# Altium footprint library PcbLib1.PcbLib: 202 footprints (part 5 of 13)
Each footprint in its own frame and in the unit in brackets; x right, y up, seen from the top. Pads: shape width x height; smd on the part's side, far side on the other; paste and mask are expansions set on the pad; w line width, h text height; cw(c..) or ccw(c..) is an arc to the next point about the centre after c.
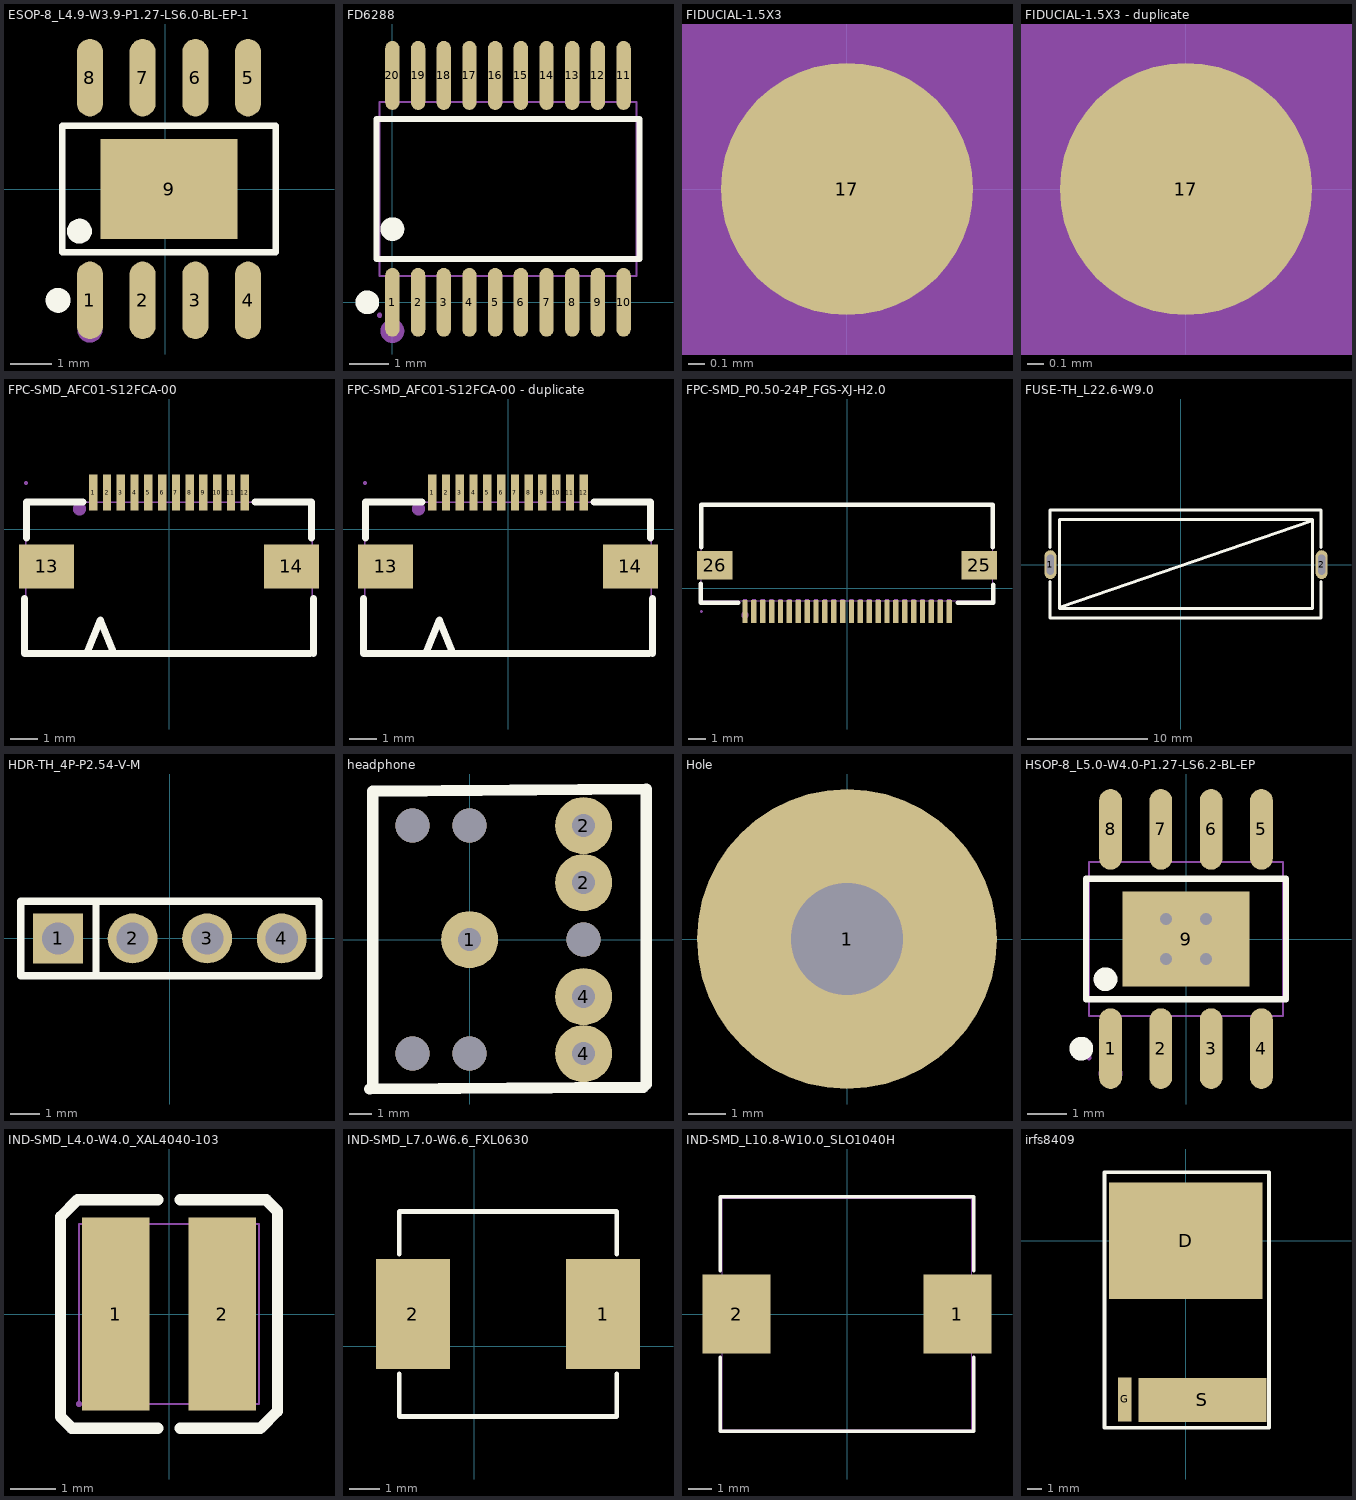
[diagram p4: the footprints below, top view; thin cyan lines are the x and y axes]

## ESOP-8_L4.9-W3.9-P1.27-LS6.0-BL-EP-1 [mm]
pads (9):
  oval 0.63x1.865 smd paste+0 mask+0.051: 1(-1.82,-2.682) 2(-0.55,-2.682) 3(0.72,-2.682) 4(1.99,-2.682) 5(1.99,2.682) 6(0.72,2.682) 7(-0.55,2.682) 8(-1.82,2.682)
  rect 3.3x2.4 smd paste+0 mask+0.05: 9(0.085,0)
Top Overlay:
  circle w0.3: c-2.587,-2.682 r0.15
  circle w0.3: c-2.074,-1.016 r0.15
  lines w0.152: -2.491,-1.521 -2.491,1.521 2.661,1.521 2.661,-1.521 -2.491,-1.521
Mechanical 15:
  circle w0.3: c-1.82,-3.4 r0.15

## FD6288 [mm]
pads (20):
  oval 0.364x1.742 smd mask+0.051: 1(0,0) 2(0.65,0) 3(1.3,0) 4(1.95,0) 5(2.6,0) 6(3.25,0) 7(3.9,0) 8(4.55,0) 9(5.2,0) 10(5.85,0) 11(5.85,5.742) 12(5.2,5.742) 13(4.55,5.742) 14(3.9,5.742) 15(3.25,5.742) 16(2.6,5.742) 17(1.95,5.742) 18(1.3,5.742) 19(0.65,5.742) 20(0,5.742)
Top Overlay:
  circle w0.3: c0,1.852 r0.15
  circle w0.3: c-0.634,0 r0.15
  lines w0.152: -0.401,1.1 -0.401,4.642 6.251,4.642 6.251,1.1 -0.401,1.1
Mechanical 6:
  circle w0.3: c0,-0.729 r0.15
Mechanical 15:
  drawing of 45 lines, arcs and shapes, not listed

## FIDUCIAL-1.5X3 [mil]
pads (1):
  round 60 smd: 17(0,0)
Mechanical 15:
  lines w50: 35.65,-0.1 cw(c0,0) 35.65,0.1

## FIDUCIAL-1.5X3 - duplicate [mil]
pads (1):
  round 60 smd: 17(0,0)
Mechanical 15:
  lines w50: 35.65,-0.1 cw(c0,0) 35.65,0.1

## FPC-SMD_AFC01-S12FCA-00 [mm]
pads (14):
  rect 0.3x1.3 smd: 1(-2.75,1.34) 2(-2.251,1.34) 3(-1.751,1.34) 4(-1.25,1.34) 5(-0.75,1.34) 6(-0.25,1.34) 7(0.251,1.34) 8(0.75,1.34) 9(1.249,1.34) 10(1.749,1.34) 11(2.25,1.34) 12(2.75,1.34)
  rect 2x1.6 smd: 13(-4.45,-1.34) 14(4.45,-1.34)
Top Overlay:
  lines w0.254: -5.25,-2.5 -5.25,-4.5 5.13,-4.5 ; -5.18,-0.309 -5.18,0.76 ; -5.18,-0.079 -5.18,0.99 -3.132,0.99 ; -2.99,-4.5 -2.49,-3.29 -2,-4.49 ; 3.131,0.99 5.18,0.99 5.18,-0.079 ; 5.18,-0.309 5.18,0.76 ; 5.25,-4.5 5.25,-2.5
Mechanical 6:
  circle w0.24: c-3.25,0.75 r0.12
Mechanical 15:
  region: 2.65,0.99 2.65,1.69 2.85,1.69 2.85,0.99
  region: 2.65,0.98 2.65,1 2.85,1 2.85,0.98
  region: 2.15,0.99 2.15,1.69 2.35,1.69 2.35,0.99
  region: 2.15,0.98 2.15,1 2.35,1 2.35,0.98
  region: 1.649,0.99 1.649,1.69 1.849,1.69 1.849,0.99
  region: 1.649,0.98 1.649,1 1.849,1 1.849,0.98
  region: 1.149,0.99 1.149,1.69 1.349,1.69 1.349,0.99
  region: 1.149,0.98 1.149,1 1.349,1 1.349,0.98
  region: 0.65,0.99 0.65,1.69 0.85,1.69 0.85,0.99
  region: 0.65,0.98 0.65,1 0.85,1 0.85,0.98
  region: 0.151,0.99 0.151,1.69 0.351,1.69 0.351,0.99
  region: 0.151,0.98 0.151,1 0.351,1 0.351,0.98
  region: -0.35,0.99 -0.35,1.69 -0.15,1.69 -0.15,0.99
  region: -0.35,0.98 -0.35,1 -0.15,1 -0.15,0.98
  region: -0.85,0.99 -0.85,1.69 -0.65,1.69 -0.65,0.99
  region: -0.85,0.98 -0.85,1 -0.65,1 -0.65,0.98
  region: -1.35,0.99 -1.35,1.69 -1.15,1.69 -1.15,0.99
  region: -1.35,0.98 -1.35,1 -1.15,1 -1.15,0.98
  region: -1.851,0.99 -1.851,1.69 -1.651,1.69 -1.651,0.99
  region: -1.851,0.98 -1.851,1 -1.651,1 -1.651,0.98
  region: -2.351,0.99 -2.351,1.69 -2.151,1.69 -2.151,0.99
  region: -2.351,0.98 -2.351,1 -2.151,1 -2.151,0.98
  region: -2.85,0.99 -2.85,1.69 -2.65,1.69 -2.65,0.99
  region: -2.85,0.98 -2.85,1 -2.65,1 -2.65,0.98
  region: 5.2,-1.84 3.7,-1.84 3.7,-0.84 5.2,-0.84
  region: -5.2,-0.84 -3.7,-0.84 -3.7,-1.84 -5.2,-1.84
  region: -5.14,1.69 -5.141,1.714 -5.176,1.749 -5.225,1.749 -5.26,1.714 -5.26,1.69 -5.26,1.665 -5.225,1.631 -5.176,1.631 -5.141,1.666
  lines w0.051: -5.2,-4.41 5.2,-4.41 5.2,0.99 -5.2,0.99 -5.2,-4.41

## FPC-SMD_AFC01-S12FCA-00 - duplicate [mm]
pads (14):
  rect 0.3x1.3 smd: 1(-2.75,1.34) 2(-2.251,1.34) 3(-1.751,1.34) 4(-1.25,1.34) 5(-0.75,1.34) 6(-0.25,1.34) 7(0.251,1.34) 8(0.75,1.34) 9(1.249,1.34) 10(1.749,1.34) 11(2.25,1.34) 12(2.75,1.34)
  rect 2x1.6 smd: 13(-4.45,-1.34) 14(4.45,-1.34)
Top Overlay:
  lines w0.254: -5.25,-2.5 -5.25,-4.5 5.13,-4.5 ; -5.18,-0.309 -5.18,0.76 ; -5.18,-0.079 -5.18,0.99 -3.132,0.99 ; -2.99,-4.5 -2.49,-3.29 -2,-4.49 ; 3.131,0.99 5.18,0.99 5.18,-0.079 ; 5.18,-0.309 5.18,0.76 ; 5.25,-4.5 5.25,-2.5
Mechanical 6:
  circle w0.24: c-3.25,0.75 r0.12
Mechanical 15:
  region: 2.65,0.99 2.65,1.69 2.85,1.69 2.85,0.99
  region: 2.65,0.98 2.65,1 2.85,1 2.85,0.98
  region: 2.15,0.99 2.15,1.69 2.35,1.69 2.35,0.99
  region: 2.15,0.98 2.15,1 2.35,1 2.35,0.98
  region: 1.649,0.99 1.649,1.69 1.849,1.69 1.849,0.99
  region: 1.649,0.98 1.649,1 1.849,1 1.849,0.98
  region: 1.149,0.99 1.149,1.69 1.349,1.69 1.349,0.99
  region: 1.149,0.98 1.149,1 1.349,1 1.349,0.98
  region: 0.65,0.99 0.65,1.69 0.85,1.69 0.85,0.99
  region: 0.65,0.98 0.65,1 0.85,1 0.85,0.98
  region: 0.151,0.99 0.151,1.69 0.351,1.69 0.351,0.99
  region: 0.151,0.98 0.151,1 0.351,1 0.351,0.98
  region: -0.35,0.99 -0.35,1.69 -0.15,1.69 -0.15,0.99
  region: -0.35,0.98 -0.35,1 -0.15,1 -0.15,0.98
  region: -0.85,0.99 -0.85,1.69 -0.65,1.69 -0.65,0.99
  region: -0.85,0.98 -0.85,1 -0.65,1 -0.65,0.98
  region: -1.35,0.99 -1.35,1.69 -1.15,1.69 -1.15,0.99
  region: -1.35,0.98 -1.35,1 -1.15,1 -1.15,0.98
  region: -1.851,0.99 -1.851,1.69 -1.651,1.69 -1.651,0.99
  region: -1.851,0.98 -1.851,1 -1.651,1 -1.651,0.98
  region: -2.351,0.99 -2.351,1.69 -2.151,1.69 -2.151,0.99
  region: -2.351,0.98 -2.351,1 -2.151,1 -2.151,0.98
  region: -2.85,0.99 -2.85,1.69 -2.65,1.69 -2.65,0.99
  region: -2.85,0.98 -2.85,1 -2.65,1 -2.65,0.98
  region: 5.2,-1.84 3.7,-1.84 3.7,-0.84 5.2,-0.84
  region: -5.2,-0.84 -3.7,-0.84 -3.7,-1.84 -5.2,-1.84
  region: -5.14,1.69 -5.141,1.714 -5.176,1.749 -5.225,1.749 -5.26,1.714 -5.26,1.69 -5.26,1.665 -5.225,1.631 -5.176,1.631 -5.141,1.666
  lines w0.051: -5.2,-4.41 5.2,-4.41 5.2,0.99 -5.2,0.99 -5.2,-4.41

## FPC-SMD_P0.50-24P_FGS-XJ-H2.0 [mm]
pads (26):
  rect 0.3x1.3 smd: 1(-5.748,-1.301) 2(-5.248,-1.301) 3(-4.748,-1.301) 4(-4.248,-1.301) 5(-3.748,-1.301) 6(-3.248,-1.301) 7(-2.748,-1.301) 8(-2.248,-1.301) 9(-1.748,-1.301) 10(-1.248,-1.301) 11(-0.748,-1.301) 12(-0.248,-1.301) 13(0.252,-1.301) 14(0.752,-1.301) 15(1.252,-1.301) 16(1.752,-1.301) 17(2.252,-1.301) 18(2.752,-1.301) 19(3.252,-1.301) 20(3.752,-1.301) 21(4.252,-1.301) 22(4.752,-1.301) 23(5.252,-1.301) 24(5.752,-1.301)
  rect 2x1.6 smd: 25(7.45,1.301) 26(-7.45,1.301)
Top Overlay:
  lines w0.254: -8.25,0.27 -8.25,-0.8 -6.129,-0.8 ; -8.199,2.332 -8.199,4.701 8.199,4.701 ; 6.25,-0.8 8.25,-0.8 8.25,0.2 ; 8.2,2.332 8.2,4.701
Mechanical 6:
  circle w0.2: c-5.75,-1.5 r0.1
Mechanical 15:
  region: 8.198,2.051 8.198,0.551 6.898,0.551 6.898,2.051
  region: -8.198,0.551 -8.198,2.051 -6.898,2.051 -6.898,0.551
  region: 5.653,-1.301 5.653,-0.601 5.853,-0.601 5.853,-1.301
  region: 5.152,-1.301 5.152,-0.601 5.352,-0.601 5.352,-1.301
  region: 4.652,-1.301 4.652,-0.601 4.852,-0.601 4.852,-1.301
  region: 4.152,-1.301 4.152,-0.601 4.352,-0.601 4.352,-1.301
  region: 3.652,-1.301 3.652,-0.601 3.852,-0.601 3.852,-1.301
  region: 3.152,-1.301 3.152,-0.601 3.352,-0.601 3.352,-1.301
  region: 2.652,-1.301 2.652,-0.601 2.852,-0.601 2.852,-1.301
  region: 2.153,-1.301 2.153,-0.601 2.353,-0.601 2.353,-1.301
  region: 1.152,-1.301 1.152,-0.601 1.352,-0.601 1.352,-1.301
  region: 1.652,-1.301 1.652,-0.601 1.852,-0.601 1.852,-1.301
  region: 0.652,-1.301 0.652,-0.601 0.852,-0.601 0.852,-1.301
  region: 0.152,-1.301 0.152,-0.601 0.352,-0.601 0.352,-1.301
  region: -0.347,-1.301 -0.347,-0.601 -0.147,-0.601 -0.147,-1.301
  region: -0.847,-1.301 -0.847,-0.601 -0.647,-0.601 -0.647,-1.301
  region: -1.348,-1.301 -1.348,-0.601 -1.148,-0.601 -1.148,-1.301
  region: -1.848,-1.301 -1.848,-0.601 -1.648,-0.601 -1.648,-1.301
  region: -2.347,-1.301 -2.347,-0.601 -2.147,-0.601 -2.147,-1.301
  region: -2.847,-1.301 -2.847,-0.601 -2.647,-0.601 -2.647,-1.301
  region: -3.348,-1.301 -3.348,-0.601 -3.148,-0.601 -3.148,-1.301
  region: -3.848,-1.301 -3.848,-0.601 -3.648,-0.601 -3.648,-1.301
  region: -4.348,-1.301 -4.348,-0.601 -4.148,-0.601 -4.148,-1.301
  region: -4.847,-1.301 -4.847,-0.601 -4.647,-0.601 -4.647,-1.301
  region: -5.347,-1.301 -5.347,-0.601 -5.147,-0.601 -5.147,-1.301
  region: -5.848,-1.301 -5.848,-0.601 -5.648,-0.601 -5.648,-1.301
  region: -8.14,-1.301 -8.14,-1.276 -8.175,-1.241 -8.225,-1.241 -8.26,-1.276 -8.26,-1.301 -8.26,-1.326 -8.225,-1.361 -8.175,-1.361 -8.14,-1.326
  lines w0.051: -8.2,-0.7 -8.2,4.7 8.2,4.7 8.2,-0.7 -8.2,-0.7

## FUSE-TH_L22.6-W9.0 [mm]
pads (2):
  oval 1x2.4 hole 0.6 slot 1.68 at 90 deg paste-2539.97 mask+0.051: 1(-10.863,0) 2(11.763,0)
Top Overlay:
  lines w0.254: -10.893,-1.431 -10.893,-4.449 11.707,-4.449 11.707,-1.429 ; -10.893,1.431 -10.893,4.551 11.707,4.551 11.707,1.429 ; -9.993,-3.549 10.907,3.651 ; -10.093,-3.649 -10.093,3.751 11.007,3.751 11.007,-3.649 -10.093,-3.649

## HDR-TH_4P-P2.54-V-M [mm]
pads (4):
  rect 1.7x1.7 hole 1.1: 1(-3.81,0)
  round 1.7 hole 1.1: 2(-1.27,0) 3(1.27,0) 4(3.81,0)
Top Overlay:
  lines w0.254: -2.516,-1.27 -2.516,1.27 ; -2.516,1.27 5.08,1.27 5.08,-1.27 -5.08,-1.27 -5.08,1.27 -2.516,1.27
Mechanical 15:
  region: -5.02,-1.25 -5.02,-1.225 -5.055,-1.19 -5.105,-1.19 -5.14,-1.225 -5.14,-1.25 -5.14,-1.275 -5.105,-1.31 -5.055,-1.31 -5.02,-1.275
  region: -4.13,0.32 -3.49,0.32 -3.49,-0.32 -4.13,-0.32
  region: -1.59,0.32 -0.95,0.32 -0.95,-0.32 -1.59,-0.32
  region: 0.95,0.32 1.59,0.32 1.59,-0.32 0.95,-0.32
  region: 3.49,0.32 4.13,0.32 4.13,-0.32 3.49,-0.32
  lines w0.051: -5.08,-1.25 -5.08,1.25 5.08,1.25 5.08,-1.25 -5.08,-1.25

## headphone [mm]
pads (5):
  round 2.5 hole 1 square: 1(0,0) 2(5,2.5) 2(5,5) 4(5,-5) 4(5,-2.5)
via 5,0 diameter 1.5 hole 1.5
via 0,5 diameter 1.5 hole 1.5
via -2.5,5 diameter 1.5 hole 1.5
via 0,-5 diameter 1.5 hole 1.5
via -2.5,-5 diameter 1.5 hole 1.5
Top Overlay:
  lines w0.5: -4.38,-6.555 7.62,-6.477 ; -4.253,-6.428 -4.253,6.502 7.747,6.604 7.747,-6.35

## Hole [mm]
pads (1):
  round 8 hole 3: 1(0,0)

## HSOP-8_L5.0-W4.0-P1.27-LS6.2-BL-EP [mm]
pads (9):
  oval 0.574x2.038 smd: 1(-1.905,-2.769) 2(-0.635,-2.769) 3(0.635,-2.769) 4(1.905,-2.769) 5(1.905,2.769) 6(0.635,2.769) 7(-0.635,2.769) 8(-1.905,2.769)
  rect 3.2x2.4 smd: 9(0,0)
via 0.5,-0.5 diameter 0.61 hole 0.305
via -0.5,-0.5 diameter 0.61 hole 0.305
via 0.5,0.5 diameter 0.61 hole 0.305
via -0.5,0.5 diameter 0.61 hole 0.305
Top Overlay:
  circle w0.3: c-2.644,-2.769 r0.15
  circle w0.3: c-2.032,-1.016 r0.15
  lines w0.152: -2.526,-1.521 2.526,-1.521 2.526,1.521 -2.526,1.521 -2.526,-1.521
Mechanical 6:
  circle w0.3: c-1.905,-3.4 r0.15
Mechanical 15:
  region: -1.528,-1.115 -1.528,1.115 1.528,1.115 1.528,-1.115
  region: 1.7,2.175 1.7,1.94 2.11,1.94 2.11,2.175
  region: 1.7,3 1.7,2.165 2.11,2.165 2.11,3
  region: 0.43,2.175 0.43,1.94 0.84,1.94 0.84,2.175
  region: 0.43,3 0.43,2.165 0.84,2.165 0.84,3
  region: -0.84,2.175 -0.84,1.94 -0.43,1.94 -0.43,2.175
  region: -0.84,3 -0.84,2.165 -0.43,2.165 -0.43,3
  region: -2.11,2.175 -2.11,1.94 -1.7,1.94 -1.7,2.175
  region: -2.11,3 -2.11,2.165 -1.7,2.165 -1.7,3
  region: 1.7,-2.175 1.7,-1.94 2.11,-1.94 2.11,-2.175
  region: 1.7,-3 1.7,-2.165 2.11,-2.165 2.11,-3
  region: 0.43,-2.175 0.43,-1.94 0.84,-1.94 0.84,-2.175
  region: 0.43,-3 0.43,-2.165 0.84,-2.165 0.84,-3
  region: -0.84,-2.175 -0.84,-1.94 -0.43,-1.94 -0.43,-2.175
  region: -0.84,-3 -0.84,-2.165 -0.43,-2.165 -0.43,-3
  region: -2.11,-2.175 -2.11,-1.94 -1.7,-1.94 -1.7,-2.175
  region: -2.11,-3 -2.11,-2.165 -1.7,-2.165 -1.7,-3
  region: -2.39,-3 -2.391,-2.976 -2.426,-2.941 -2.475,-2.941 -2.51,-2.975 -2.51,-3 -2.51,-3.024 -2.475,-3.059 -2.426,-3.059 -2.391,-3.024
  lines w0.051: -2.45,-1.95 2.45,-1.95 2.45,1.95 -2.45,1.95 -2.45,-1.95

## IND-SMD_L4.0-W4.0_XAL4040-103 [mm]
pads (2):
  rect 1.5x4.3 smd: 1(-1.185,0) 2(1.185,0)
Top Overlay:
  lines w0.254: -0.254,-2.54 -2.032,-2.54 -2.159,-2.54 -2.413,-2.286 -2.413,2.159 -2.032,2.54 -0.254,2.54 ; 0.254,-2.54 2.032,-2.54 2.413,-2.159 2.413,2.286 2.159,2.54 2.032,2.54 0.254,2.54
Mechanical 15:
  region: -1.94,-2 -1.941,-1.976 -1.976,-1.941 -2.024,-1.941 -2.059,-1.976 -2.06,-2 -2.059,-2.024 -2.024,-2.059 -1.976,-2.059 -1.941,-2.024
  region: 0.785,2 1.605,2 1.605,-2 0.785,-2
  region: -1.605,2 -0.785,2 -0.785,-2 -1.605,-2
  lines w0.051: -2,-2 2,-2 2,2 -2,2 -2,-2

## IND-SMD_L7.0-W6.6_FXL0630 [mm]
pads (2):
  rect 2.424x3.62 smd paste+0 mask+0.051: 1(4.236,1.067) 2(-2.02,1.067)
Top Overlay:
  lines w0.152: -2.468,-0.896 -2.468,-2.309 4.685,-2.309 4.685,-0.896 ; -2.468,3.029 -2.468,4.443 4.685,4.443 4.685,3.029

## IND-SMD_L10.8-W10.0_SLO1040H [mm]
pads (2):
  rect 2.924x3.42 smd: 1(4.778,0) 2(-4.778,0)
Top Overlay:
  lines w0.152: -5.476,-1.862 -5.476,-5.076 5.476,-5.076 5.476,-1.862 ; -5.476,1.862 -5.476,5.076 5.476,5.076 5.476,1.862
Mechanical 15:
  region: 5.46,5 5.459,5.024 5.424,5.057 5.376,5.057 5.341,5.024 5.34,5 5.341,4.976 5.376,4.943 5.424,4.943 5.459,4.976
  region: -5.4,-1.5 -5.4,1.5 -3.4,1.5 -3.4,-1.5
  region: 5.4,-1.5 5.4,1.5 3.4,1.5 3.4,-1.5
  lines w0.051: -5.4,-5 -5.4,5 5.4,5 5.4,-5 -5.4,-5

## irfs8409 [mm]
pads (3):
  rect 10.54x8 smd: D(0,0)
  rect 0.9x3 smd: G(-4.191,-10.893)
  rect 8.8x3 smd: S(1.143,-10.922)
Top Overlay:
  lines w0.254: -5.588,-12.827 5.715,-12.827 5.715,4.699 -5.588,4.699 -5.588,-12.827